# Altium footprint library TDK.PcbLib: 1 footprints
Each footprint in its own frame and in the unit in brackets; x right, y up, seen from the top. Pads: shape width x height; smd on the part's side, far side on the other; paste and mask are expansions set on the pad; w line width, h text height; cw(c..) or ccw(c..) is an arc to the next point about the centre after c.
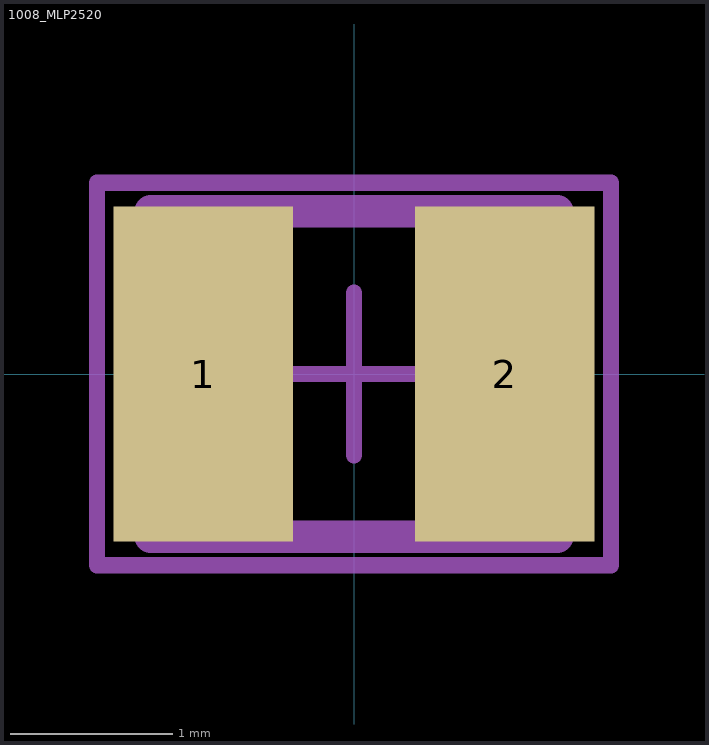
[diagram p0: the footprint, top view; thin cyan lines are the x and y axes]

## 1008_MLP2520 [mm] "MLP2520"
pads (2):
  rect 1.105x2.058 smd paste-0.15 mask+0.05: 1(-0.926,0) 2(0.926,0)
Top 3D Body:
  lines w0.2: -1.25,-1 -1.25,1 1.25,1 1.25,-1 -1.25,-1
Top Assembly:
  lines w0.1: -0.5,0 0.5,0 ; 0,-0.5 0,0.5 ; -1.579,-1.175 -1.579,1.175 1.579,1.175 1.579,-1.175 -1.579,-1.175
  text ".Designator" at -1.349,0.25 h1
3D body "Ind_TDK_MLP2520V4R7MT0S1_eec.STEP": height 0.25, standoff 0, extent -1.579,-1.175 1.579,1.175